# Altium footprint library A_Semi.PcbLib: 47 footprints (part 3 of 3)
Each footprint in its own frame and in the unit in brackets; x right, y up, seen from the top. Pads: shape width x height; smd on the part's side, far side on the other; paste and mask are expansions set on the pad; w line width, h text height; cw(c..) or ccw(c..) is an arc to the next point about the centre after c.
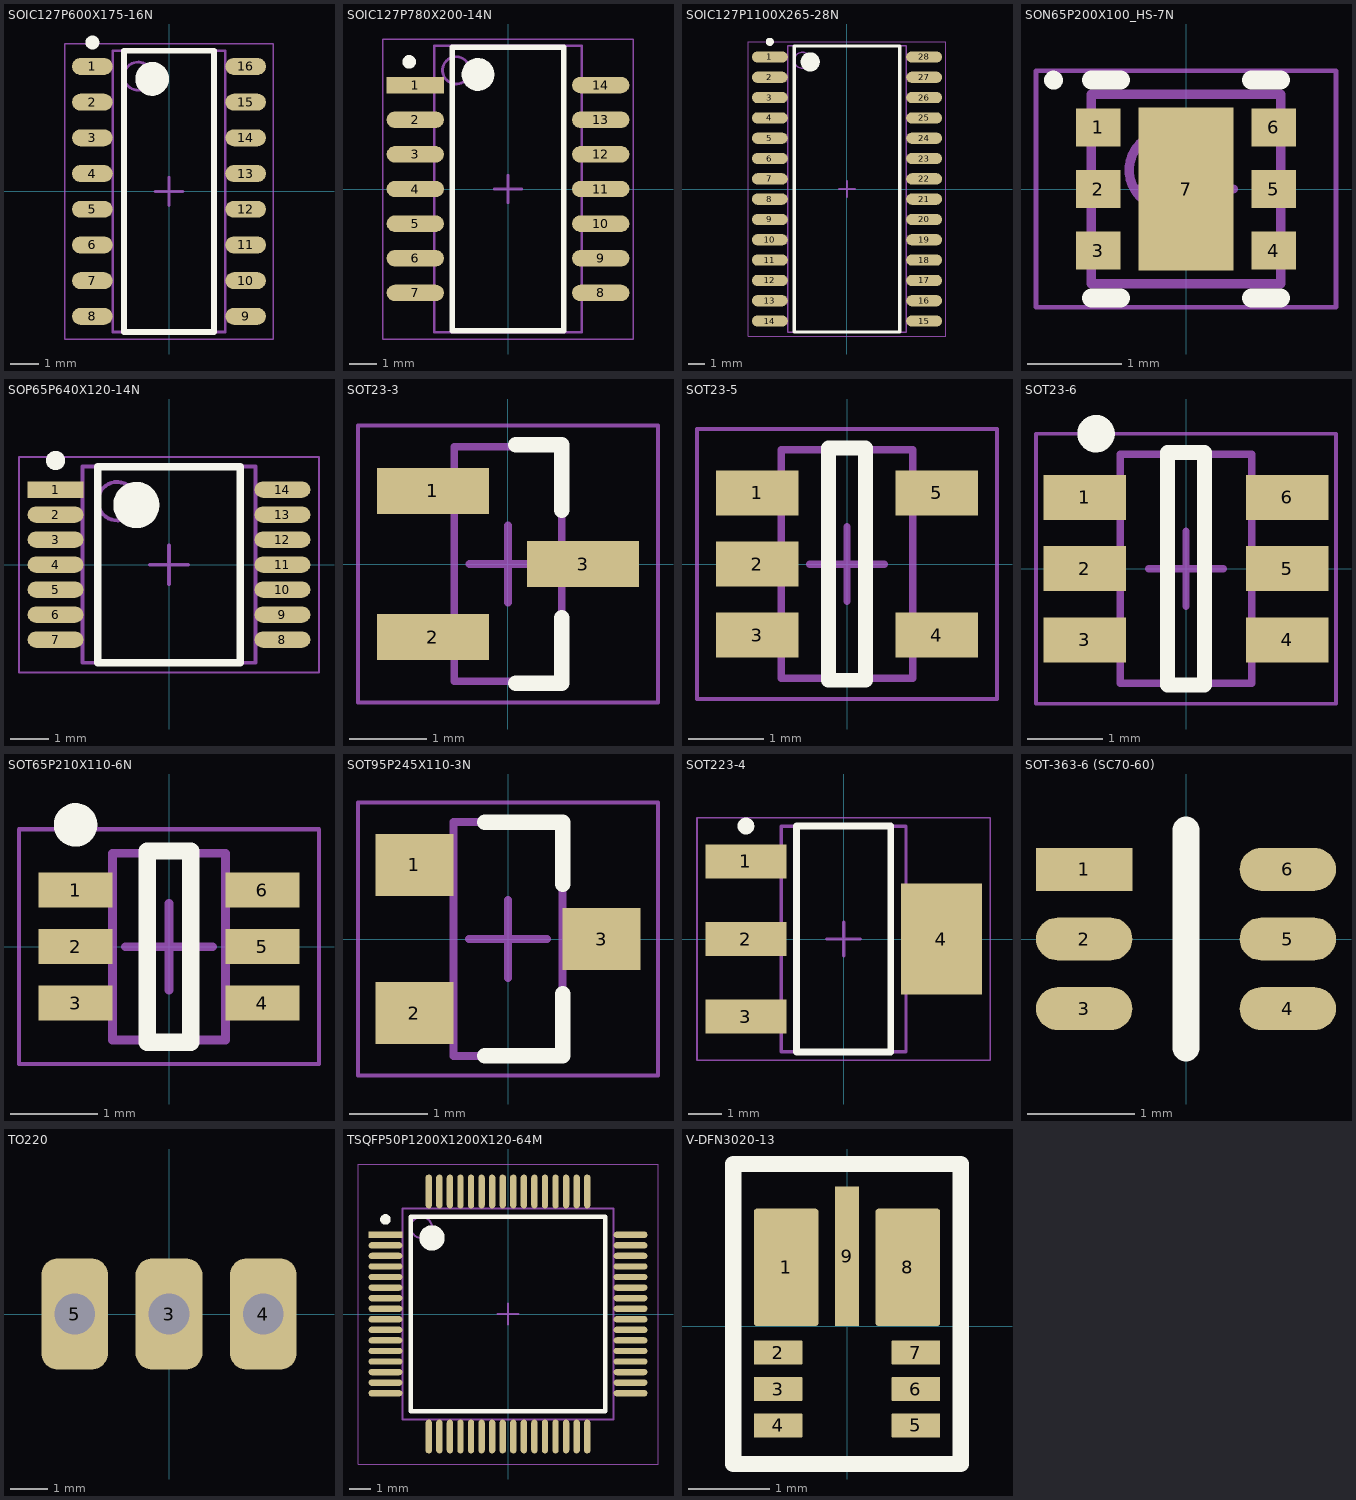
[diagram p2: the footprints below, top view; thin cyan lines are the x and y axes]

## SOIC127P600X175-16N [mm] "SOIC, 16-Leads, Body 9.90x3.90mm, Pitch 1.27mm, IPC Medium Density"
height 1.75
pads (16):
  oval 1.45x0.6 smd: 1(-2.725,4.445) 2(-2.725,3.175) 3(-2.725,1.905) 4(-2.725,0.635) 5(-2.725,-0.635) 6(-2.725,-1.905) 7(-2.725,-3.175) 8(-2.725,-4.445) 9(2.725,-4.445) 10(2.725,-3.175) 11(2.725,-1.905) 12(2.725,-0.635) 13(2.725,0.635) 14(2.725,1.905) 15(2.725,3.175) 16(2.725,4.445)
Top Overlay:
  circle w0.25: c-2.725,5.295 r0.125
  circle w0.6: c-0.6,4 r0.3
  lines w0.2: -1.6,-5 -1.6,5 1.6,5 1.6,-5 -1.6,-5
Mechanical 13:
  circle w0.1: c-1.1,4.1 r0.5
  lines w0.1: -2,-5 -2,5 2,5 2,-5 -2,-5
Mechanical 15:
  lines w0.05: -3.7,-5.25 -3.7,5.25 3.7,5.25 3.7,-5.25 -3.7,-5.25
  lines w0.1: -0.5,0 0.5,0 ; 0,-0.5 0,0.5
3D body "SOIC127P600X175-16N.step": height 1.75, standoff 0, extent -3,-5 3,5

## SOIC127P780X200-14N [mm] "SOIC, 14-Leads, Body 10.20x5.38mm, Pitch 1.27mm, IPC Medium Density"
height 2
pads (14):
  rect 2.1x0.6 smd: 1(-3.4,3.81)
  oval 2.1x0.6 smd: 2(-3.4,2.54) 3(-3.4,1.27) 4(-3.4,0) 5(-3.4,-1.27) 6(-3.4,-2.54) 7(-3.4,-3.81) 8(3.4,-3.81) 9(3.4,-2.54) 10(3.4,-1.27) 11(3.4,0) 12(3.4,1.27) 13(3.4,2.54) 14(3.4,3.81)
Top Overlay:
  circle w0.25: c-3.625,4.66 r0.125
  circle w0.6: c-1.1,4.2 r0.3
  lines w0.2: -2.05,-5.2 2.05,-5.2 2.05,5.2 -2.05,5.2 -2.05,-5.2
Mechanical 13:
  circle w0.1: c-1.9,4.35 r0.5
  lines w0.1: -2.7,-5.25 -2.7,5.25 2.7,5.25 2.7,-5.25 -2.7,-5.25
Mechanical 15:
  lines w0.05: -4.6,-5.5 -4.6,5.5 4.6,5.5 4.6,-5.5 -4.6,-5.5
  lines w0.1: -0.5,0 0.5,0 ; 0,-0.5 0,0.5
3D body "User Library-IPC SO.step": height 2.15, standoff 0, extent -3.928,-5.25 3.928,5.25

## SOIC127P1100X265-28N [mm] "SOIC, 28-Leads, Body 17.90x7.40mm, Pitch 1.27mm, IPC Medium Density"
height 2.65
pads (28):
  oval 2.25x0.7 smd: 1(-4.825,8.255) 2(-4.825,6.985) 3(-4.825,5.715) 4(-4.825,4.445) 5(-4.825,3.175) 6(-4.825,1.905) 7(-4.825,0.635) 8(-4.825,-0.635) 9(-4.825,-1.905) 10(-4.825,-3.175) 11(-4.825,-4.445) 12(-4.825,-5.715) 13(-4.825,-6.985) 14(-4.825,-8.255) 15(4.825,-8.255) 16(4.825,-6.985) 17(4.825,-5.715) 18(4.825,-4.445) 19(4.825,-3.175) 20(4.825,-1.905) 21(4.825,-0.635) 22(4.825,0.635) 23(4.825,1.905) 24(4.825,3.175) 25(4.825,4.445) 26(4.825,5.715) 27(4.825,6.985) 28(4.825,8.255)
Top Overlay:
  circle w0.25: c-4.825,9.205 r0.125
  circle w0.6: c-2.3,7.95 r0.3
  lines w0.2: -3.3,-8.95 -3.3,8.95 3.3,8.95 3.3,-8.95 -3.3,-8.95
Mechanical 13:
  circle w0.1: c-2.8,8.05 r0.5
  lines w0.1: -3.7,-8.95 -3.7,8.95 3.7,8.95 3.7,-8.95 -3.7,-8.95
Mechanical 15:
  lines w0.05: -6.175,-9.2 -6.175,9.2 6.175,9.2 6.175,-9.2 -6.175,-9.2
  lines w0.1: -0.5,0 0.5,0 ; 0,-0.5 0,0.5
3D body "SOIC127P1100X265-28N.step": height 2.75, standoff 0.1, extent -5.5,-8.95 5.5,8.95

## SON65P200X100_HS-7N [mm] "SON, 6-Leads, Body 2.00x2.00mm, Pitch 0.65mm, Thermal Pad 1.60x0.78mm, IPC Medium Density"
height 1
pads (7):
  rect 0.47x0.4 smd: 1(-0.925,0.65) 2(-0.925,0) 3(-0.925,-0.65) 4(0.925,-0.65) 5(0.925,0) 6(0.925,0.65)
  rect 1x1.72 smd mask+0.1: 7(0,0)
Top Overlay:
  circle w0.1: c-1.4,1.15 r0.05
  lines w0.2: -1,-1.15 -0.69,-1.15 ; -1,1.15 -0.69,1.15 ; 0.69,-1.15 1,-1.15 ; 0.69,1.15 1,1.15
Mechanical 13:
  circle w0.1: c-0.2,0.2 r0.4
  lines w0.1: -1,-1 1,-1 1,1 -1,1 -1,-1
Mechanical 15:
  lines w0.05: -1.585,-1.25 1.585,-1.25 1.585,1.25 -1.585,1.25 -1.585,-1.25
  lines w0.1: -0.5,0 0.5,0 ; 0,-0.5 0,0.5
3D body: height 1, standoff 0.1, extent -1,-1 1,1

## SOP65P640X120-14N [mm] "TSOP, 14-Leads, Body 5.00x4.40mm, Pitch 0.65mm, IPC Medium Density"
height 1.2
pads (14):
  rect 1.45x0.42 smd: 1(-2.95,1.95)
  oval 1.45x0.42 smd: 2(-2.95,1.3) 3(-2.95,0.65) 4(-2.95,0) 5(-2.95,-0.65) 6(-2.95,-1.3) 7(-2.95,-1.95) 8(2.95,-1.95) 9(2.95,-1.3) 10(2.95,-0.65) 11(2.95,0) 12(2.95,0.65) 13(2.95,1.3) 14(2.95,1.95)
Top Overlay:
  circle w0.6: c-0.85,1.55 r0.3
  circle w0.25: c-2.95,2.71 r0.125
  lines w0.2: -1.85,-2.55 1.85,-2.55 1.85,2.55 -1.85,2.55 -1.85,-2.55
Mechanical 13:
  circle w0.1: c-1.35,1.65 r0.5
  lines w0.1: -2.25,-2.55 2.25,-2.55 2.25,2.55 -2.25,2.55 -2.25,-2.55
Mechanical 15:
  lines w0.05: -3.9,-2.8 3.9,-2.8 3.9,2.8 -3.9,2.8 -3.9,-2.8
  lines w0.1: -0.5,0 0.5,0 ; 0,-0.5 0,0.5
3D body "SOP65P640X120-14N.step": height 1.35, standoff 0, extent -3.228,-2.55 3.228,2.55

## SOT23-3 [mm]
pads (3):
  rect 1.45x0.6 smd: 1(-0.975,0.95) 2(-0.975,-0.95) 3(0.975,0)
Top Overlay:
  lines w0.2: 0.1,-1.55 0.7,-1.55 0.7,-0.7 ; 0.1,1.55 0.7,1.55 0.7,0.7
Mechanical 13:
  lines w0.1: -0.7,-1.525 -0.7,1.525 0.7,1.525 0.7,-1.525 -0.7,-1.525
Mechanical 15:
  lines w0.05: -1.95,-1.8 -1.95,1.8 1.95,1.8 1.95,-1.8 -1.95,-1.8
  lines w0.1: -0.5,0 0.5,0 ; 0,-0.5 0,0.5
3D body "SOT23-3.step": height 1.3, standoff 0, extent -1.4,-1.45 1.4,1.45

## SOT23-5 [mm] "SOT23, 5-Leads, Body 2.90x2.80mm, Pitch 0.95mm, IPC Medium Density"
height 1.45
pads (5):
  rect 1.1x0.6 smd: 1(-1.2,0.95) 2(-1.2,0) 3(-1.2,-0.95) 4(1.2,-0.95) 5(1.2,0.95)
Top Overlay:
  lines w0.2: -0.25,-1.55 -0.25,1.55 0.25,1.55 0.25,-1.55 -0.25,-1.55
Mechanical 13:
  lines w0.1: -0.875,-1.525 0.875,-1.525 0.875,1.525 -0.875,1.525 -0.875,-1.525
Mechanical 15:
  lines w0.05: -2,-1.8 2,-1.8 2,1.8 -2,1.8 -2,-1.8
  lines w0.1: -0.5,0 0.5,0 ; 0,-0.5 0,0.5
3D body "SOT23-5.step": height 1.45, standoff 0, extent -1.4,-1.45 1.4,1.45

## SOT23-6 [mm] "SOT23, 6-Leads, Body 2.90x2.80mm, Pitch 0.95mm, IPC Medium Density"
height 1.45
pads (6):
  rect 1.1x0.6 smd: 1(-1.35,0.95) 2(-1.35,0) 3(-1.35,-0.95) 4(1.35,-0.95) 5(1.35,0) 6(1.35,0.95)
Top Overlay:
  circle w0.25: c-1.2,1.8 r0.125
  lines w0.2: -0.25,-1.55 -0.25,1.55 0.25,1.55 0.25,-1.55 -0.25,-1.55
Mechanical 13:
  lines w0.1: -0.875,-1.525 0.875,-1.525 0.875,1.525 -0.875,1.525 -0.875,-1.525
Mechanical 15:
  lines w0.05: -2,-1.8 2,-1.8 2,1.8 -2,1.8 -2,-1.8
  lines w0.1: -0.5,0 0.5,0 ; 0,-0.5 0,0.5
3D body "SOT23-6.step": height 1.45, standoff 0, extent -1.4,-1.45 1.4,1.45

## SOT65P210X110-6N [mm] "SOT23, 6-Leads, Body 1.98x2.10mm, Pitch 0.65mm, IPC Medium Density"
height 1.1
pads (6):
  rect 0.85x0.4 smd: 1(-1.075,0.65) 2(-1.075,0) 3(-1.075,-0.65) 4(1.075,-0.65) 5(1.075,0) 6(1.075,0.65)
Top Overlay:
  circle w0.25: c-1.075,1.4 r0.125
  lines w0.2: -0.25,-1.1 0.25,-1.1 0.25,1.1 -0.25,1.1 -0.25,-1.1
Mechanical 13:
  lines w0.1: -0.65,-1.075 -0.65,1.075 0.65,1.075 0.65,-1.075 -0.65,-1.075
Mechanical 15:
  lines w0.05: -1.725,-1.35 -1.725,1.35 1.725,1.35 1.725,-1.35 -1.725,-1.35
  lines w0.1: -0.5,0 0.5,0 ; 0,-0.5 0,0.5
3D body "SOT65P210X110-6N.step": height 1.1, standoff 0, extent -1.1,-1.075 1.1,1.075

## SOT95P245X110-3N [mm] "SOT23, 3-Leads, Body 2.90x2.45mm, Pitch 0.95mm, IPC Medium Density"
height 1.1
pads (3):
  rect 1x0.8 smd: 1(-1.2,0.95) 2(-1.2,-0.95) 3(1.2,0)
Top Overlay:
  lines w0.2: -0.3,-1.5 0.7,-1.5 0.7,-0.7 ; -0.3,1.5 0.7,1.5 0.7,0.7
Mechanical 13:
  lines w0.1: -0.7,-1.5 0.7,-1.5 0.7,1.5 -0.7,1.5 -0.7,-1.5
Mechanical 15:
  lines w0.05: -1.925,-1.75 1.925,-1.75 1.925,1.75 -1.925,1.75 -1.925,-1.75
  lines w0.1: -0.5,0 0.5,0 ; 0,-0.5 0,0.5
3D body "SOT95P245X110-3N.step": height 1.1, standoff 0, extent -1.3,-1.5 1.3,1.5

## SOT223-4 [mm] "SOT223, 4-Leads, Body 6.5x3.5mm, Pitch 2.3mm, Lead Span 7mm, IPC Medium Density"
height 1.8
pads (4):
  rect 2.4x1 smd: 1(-2.9,2.3) 2(-2.9,0) 3(-2.9,-2.3)
  rect 2.4x3.3 smd: 4(2.9,0)
Top Overlay:
  circle w0.25: c-2.9,3.35 r0.125
  lines w0.2: -1.4,-3.35 -1.4,3.35 1.4,3.35 1.4,-3.35 -1.4,-3.35
Mechanical 13:
  lines w0.1: -1.85,-3.35 -1.85,3.35 1.85,3.35 1.85,-3.35 -1.85,-3.35
Mechanical 15:
  lines w0.05: -4.35,-3.6 -4.35,3.6 4.35,3.6 4.35,-3.6 -4.35,-3.6
  lines w0.1: -0.5,0 0.5,0 ; 0,-0.5 0,0.5
3D body "sot-223.step": height 1.64, standoff -0.04, extent -3.466,-3.25 3.466,3.25

## SOT-363-6 (SC70-60) [mm]
pads (6):
  rect 0.9x0.4 smd: 1(-0.95,0.65)
  oval 0.9x0.4 smd: 2(-0.95,0) 3(-0.95,-0.65) 4(0.95,-0.65) 5(0.95,0) 6(0.95,0.65)
Top Overlay:
  lines w0.254: 0,-1.016 0,1.016
3D body "User Library-sot363.STEP": height 1, standoff 0, extent -1.15,-1.05 1.15,1.05

## TO220 [mm]
pads (3):
  rrect50% 1.8x3 hole 1.1 unplated: 3(0,0) 4(2.54,0) 5(-2.54,0)

## TSQFP50P1200X1200X120-64M [mm] "TSQFP, 64-Leads, Body 10.00x10.00mm, Pitch 0.50mm, IPC Low Density"
height 1.2
pads (64):
  rect 1.6x0.3 smd: 1(-5.8,3.75)
  oval 1.6x0.3 smd: 2(-5.8,3.25) 3(-5.8,2.75) 4(-5.8,2.25) 5(-5.8,1.75) 6(-5.8,1.25) 7(-5.8,0.75) 8(-5.8,0.25) 9(-5.8,-0.25) 10(-5.8,-0.75) 11(-5.8,-1.25) 12(-5.8,-1.75) 13(-5.8,-2.25) 14(-5.8,-2.75) 15(-5.8,-3.25) 16(-5.8,-3.75) 33(5.8,-3.75) 34(5.8,-3.25) 35(5.8,-2.75) 36(5.8,-2.25) 37(5.8,-1.75) 38(5.8,-1.25) 39(5.8,-0.75) 40(5.8,-0.25) 41(5.8,0.25) 42(5.8,0.75) 43(5.8,1.25) 44(5.8,1.75) 45(5.8,2.25) 46(5.8,2.75) 47(5.8,3.25) 48(5.8,3.75)
  oval 0.3x1.6 smd: 17(-3.75,-5.8) 18(-3.25,-5.8) 19(-2.75,-5.8) 20(-2.25,-5.8) 21(-1.75,-5.8) 22(-1.25,-5.8) 23(-0.75,-5.8) 24(-0.25,-5.8) 25(0.25,-5.8) 26(0.75,-5.8) 27(1.25,-5.8) 28(1.75,-5.8) 29(2.25,-5.8) 30(2.75,-5.8) 31(3.25,-5.8) 32(3.75,-5.8) 49(3.75,5.8) 50(3.25,5.8) 51(2.75,5.8) 52(2.25,5.8) 53(1.75,5.8) 54(1.25,5.8) 55(0.75,5.8) 56(0.25,5.8) 57(-0.25,5.8) 58(-0.75,5.8) 59(-1.25,5.8) 60(-1.75,5.8) 61(-2.25,5.8) 62(-2.75,5.8) 63(-3.25,5.8) 64(-3.75,5.8)
Top Overlay:
  circle w0.25: c-5.8,4.475 r0.125
  circle w0.6: c-3.6,3.6 r0.3
  lines w0.2: -4.6,-4.6 -4.6,4.6 4.6,4.6 4.6,-4.6 -4.6,-4.6
Mechanical 13:
  circle w0.1: c-4.1,4.1 r0.5
  lines w0.1: -5,-5 -5,5 5,5 5,-5 -5,-5
Mechanical 15:
  lines w0.05: -7.1,-7.1 -7.1,7.1 7.1,7.1 7.1,-7.1 -7.1,-7.1
  lines w0.1: -0.5,0 0.5,0 ; 0,-0.5 0,0.5
3D body "TSQFP50P1200X1200X120-64M.step": height 1.2, standoff 0, extent -6,-6 6,6

## V-DFN3020-13 [mm]
pads (9):
  rrect10% 0.8x1.45 smd mask+0.102: 1(-0.75,0.725) 8(0.75,0.725)
  rrect10% 0.6x0.3 smd mask+0.102: 2(-0.85,-0.325) 3(-0.85,-0.775) 4(-0.85,-1.225) 5(0.85,-1.225) 6(0.85,-0.775) 7(0.85,-0.325)
  rrect10% 0.3x1.725 smd mask+0.102: 9(0,0.863)
Top Overlay:
  lines w0.203: -1.4,-1.7 1.4,-1.7 1.4,2 -1.4,2 -1.4,-1.7